# Altium footprint library AVX IDC9176-2.PcbLib: 1 footprints
Each footprint in its own frame and in the unit in brackets; x right, y up, seen from the top. Pads: shape width x height; smd on the part's side, far side on the other; paste and mask are expansions set on the pad; w line width, h text height; cw(c..) or ccw(c..) is an arc to the next point about the centre after c.
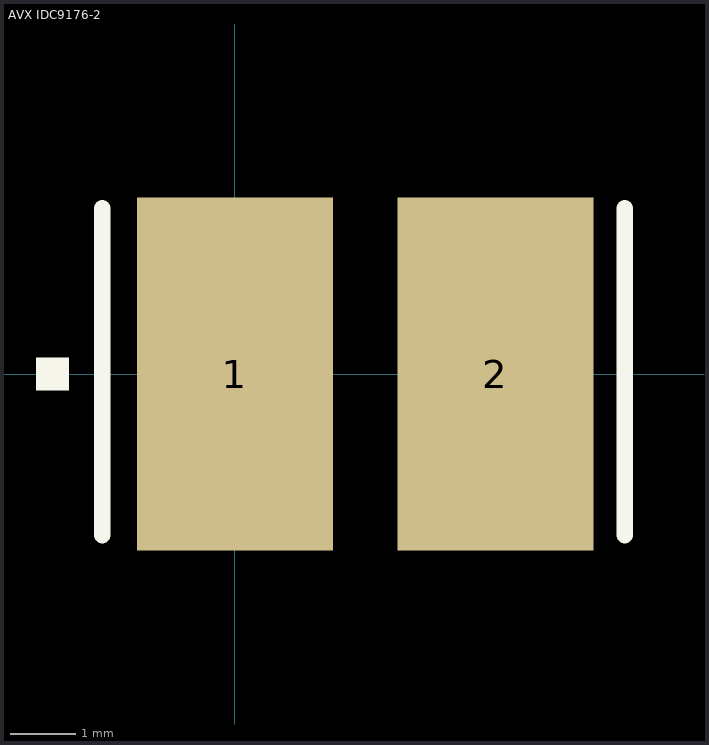
[diagram p0: the footprint, top view; thin cyan lines are the x and y axes]

## AVX IDC9176-2 [mil]
pads (2):
  rect 118x213 smd: 1(0,0) 2(157,0)
Top Overlay:
  rectangle: -120,-10 -100,10
  lines w10: -80,-97 -80,100 ; 235,-97 235,100
3D body: height 220, standoff 0, extent -77.49,-98.49 237.51,98.51